# EAGLE library part 750342424 (library wurth_electronics_midcom_inc_v2-1)
Package Style: ETD39 Mounting: THT Pins: 12 pins Bobbin: 070-6332 Best pinouts for production vary per application. Please contact Wurth Electronics Midcom, Inc. for assistance with your custom design. Website: Wurth Electronics Midcom <http://www.we-online.com/midcom> Contact us Wurth Electronics Midcom, Inc. 121 Airport Dr. Watertown, SD 57201 Phone: (605) 886-4385 Fax: (605) 886-4486 E-Mail: midcom@we-online.com
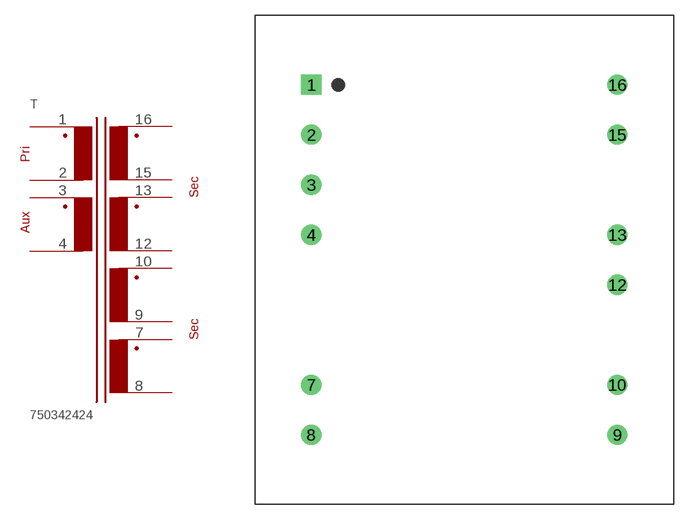
[diagram p80: symbol with the pads of ETD39_THT_H_12PIN_(6332); footprint ETD39_THT_H_12PIN_(6332)]

Designator prefix T

## 750342424  [ETD39_THT_H_12PIN_(6332)]
1  1  pas
2  2  pas
3  3  pas
4  4  pas
7  7  pas
8  8  pas
9  9  pas
10  10  pas
12  12  pas
13  13  pas
15  15  pas
16  16  pas

## Footprint ETD39_THT_H_12PIN_(6332) (pad centres in mm)
Package Style: ETD39 Mounting: THT Pins: 16 Bobbin: 070-6332
drill 1.346 square: 1 -15.303,17.513
drill 1.346: 2 -15.303,12.509; 3 -15.303,7.506; 4 -15.303,2.502; 7 -15.303,-12.509; 8 -15.303,-17.513; 9 15.303,-17.513; 10 15.303,-12.509; 12 15.303,-2.502; 13 15.303,2.502; 15 15.303,12.509; 16 15.303,17.513